# EAGLE library part CONN_FFC_1X16 (library GPLIB_CONN)
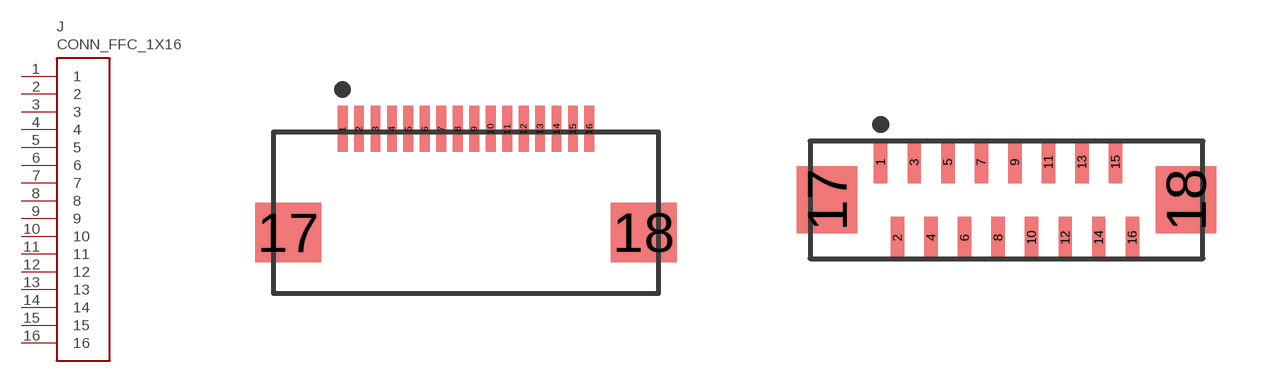
[diagram p38: symbol with the pads of CONN_FFC_1X16_0.5MM_SM_RA_F0504-H-16-20T-R; footprints CONN_FFC_1X16_0.5MM_SM_RA_F0504-H-16-20T-R, CONN_FFC_1X16_0.5MM_SM_ST_0.5K-A-16PBF]

Designator prefix J

## CONN_FFC_1X16_0.5MM_SM_RA_F0504-H-16-20T-R  [CONN_FFC_1X16_0.5MM_SM_RA_F0504-H-16-20T-R]
1  1  pas
2  2  pas
3  3  pas
4  4  pas
5  5  pas
6  6  pas
7  7  pas
8  8  pas
9  9  pas
10  10  pas
11  11  pas
12  12  pas
13  13  pas
14  14  pas
15  15  pas
16  16  pas

## CONN_FFC_1X16_0.5MM_SM_ST_0.5K-A-16PBF  [CONN_FFC_1X16_0.5MM_SM_ST_0.5K-A-16PBF]
Pads as for CONN_FFC_1X16_0.5MM_SM_RA_F0504-H-16-20T-R

## Footprint CONN_FFC_1X16_0.5MM_SM_RA_F0504-H-16-20T-R (pad centres in mm)
smd 0.3 x 1.4: 1 -3.75,2.55; 2 -3.25,2.55; 3 -2.75,2.55; 4 -2.25,2.55; 5 -1.75,2.55; 6 -1.25,2.55; 7 -0.75,2.55; 8 -0.25,2.55; 9 0.25,2.55; 10 0.75,2.55; 11 1.25,2.55; 12 1.75,2.55; 13 2.25,2.55; 14 2.75,2.55; 15 3.25,2.55; 16 3.75,2.55
smd 2 x 1.8: 17 -5.4,-0.6; 18 5.4,-0.6

## Footprint CONN_FFC_1X16_0.5MM_SM_ST_0.5K-A-16PBF (pad centres in mm)
smd 0.4 x 1.25: 1 -3.75,1.125; 2 -3.25,-1.125; 3 -2.75,1.125; 4 -2.25,-1.125; 5 -1.75,1.125; 6 -1.25,-1.125; 7 -0.75,1.125; 8 -0.25,-1.125; 9 0.25,1.125; 10 0.75,-1.125; 11 1.25,1.125; 12 1.75,-1.125; 13 2.25,1.125; 14 2.75,-1.125; 15 3.25,1.125; 16 3.75,-1.125
smd 1.8 x 2: 17 -5.35,0; 18 5.35,0